# Altium schematic symbol library J_230V_3Pin.SchLib: 1 symbol
Pins are listed as number, name and electrical type; pins without a type are passive.

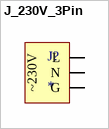
[diagram p0: symbol J_230V_3Pin]

## J_230V_3Pin
designator J?
pins: 1 L, 2 N, 3 G
text: ~230V